# EAGLE library part HDSP-B04E (library darnok_misc)
7 Segment LED light 0.56"
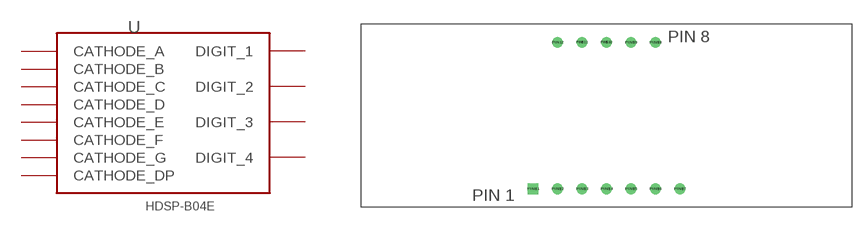
[diagram p0: symbol with the pads of HDSP-B0XE; footprint HDSP-B0XE]

Designator prefix -

## HDSP-B04E  [HDSP-B0XE]
PIN12  DIGIT_1  in
PIN$1  CATHODE_E  in
PIN$2  CATHODE_D  in
PIN$3  CATHODE_DP  in
PIN$4  CATHODE_C  in
PIN$5  CATHODE_G  in
PIN$6  DIGIT_4  in
PIN$7  CATHODE_B  in
PIN$8  DIGIT_3  in
PIN$9  DIGIT_2  in
PIN$10  CATHODE_F  in
PIN$11  CATHODE_A  in

## Footprint HDSP-B0XE (pad centres in mm)
HDSP-B0XE. 51mm x 19mm
drill 0.6: PIN12 -5.08,7.62; PIN$2 -5.08,-7.62; PIN$3 -2.54,-7.62; PIN$4 0,-7.62; PIN$5 2.54,-7.62; PIN$6 5.08,-7.62; PIN$7 7.62,-7.62; PIN$8 5.08,7.62; PIN$9 2.54,7.62; PIN$10 0,7.62; PIN$11 -2.54,7.62
drill 0.6 square: PIN$1 -7.62,-7.62